# Altium footprint library Resistors.PcbLib: 18 footprints (part 1 of 2)
Each footprint in its own frame and in the unit in brackets; x right, y up, seen from the top. Pads: shape width x height; smd on the part's side, far side on the other; paste and mask are expansions set on the pad; w line width, h text height; cw(c..) or ccw(c..) is an arc to the next point about the centre after c.
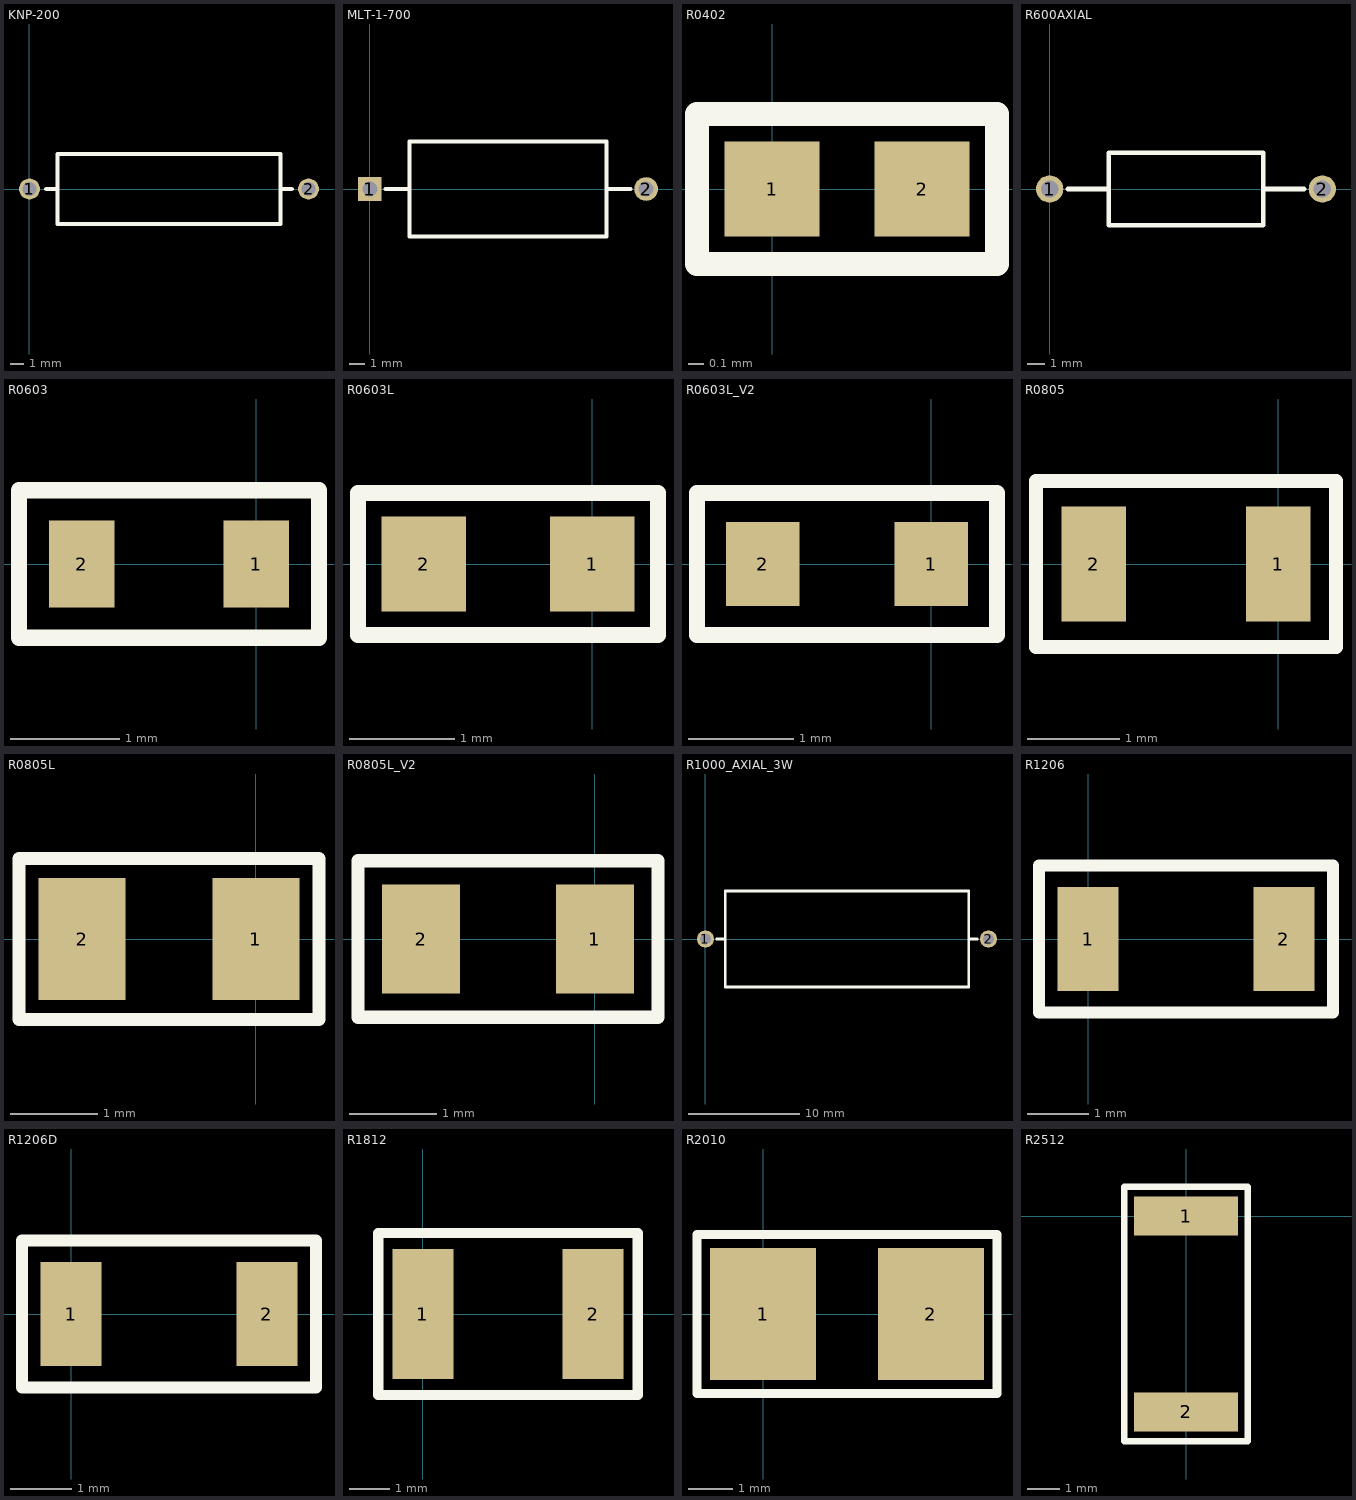
[diagram p0: the footprints below, top view; thin cyan lines are the x and y axes]

## KNP-200 [mm]
pads (2):
  round 1.5 hole 1: 1(0,0) 2(20,0)
Top Overlay:
  lines w0.3: 1.2,0 2,0 ; 18,0 18.8,0 ; 2,-2.5 2,2.5 18,2.5 18,-2.5 2,-2.5
Top Assembly:
  text ".Designator" at 6.001,-0.267 h0.8
3D body "User Library-knp200_hor20mm_470R_5.STEP": height 5.54, standoff -7.05, extent -0.381,-2.543 20.419,2.674

## MLT-1-700 [mil]
pads (2):
  rect 60x60 hole 38: 1(0,0)
  round 60 hole 38: 2(700,0)
Top Overlay:
  lines w10: 40,0 100,0 ; 600,0 660,0 ; 100,-120 100,120 600,120 600,-120 100,-120
Top Assembly:
  text ".Designator" at 546.79,-13.12 h39.37
3D body "User Library-Resistor MLTMLT-1.STEP": height 267.72, standoff -110.24, extent -16.14,-129.92 716.14,129.92

## R0402 [mm]
pads (2):
  rect 0.6x0.6 smd: 1(0,0) 2(0.95,0)
Top Overlay:
  lines w0.15: -0.475,-0.475 -0.475,0.475 1.425,0.475 1.425,-0.475 -0.475,-0.475
Top Assembly:
  text ".Designator" at 5.473,-0.333 h1
3D body "R0402.STEP": height 0.34, standoff -0.01, extent -0.025,-0.25 0.975,0.25

## R600AXIAL [mil]
pads (2):
  round 60 hole 38: 1(0,0) 2(600,0)
Top Overlay:
  lines w10: 40,0 130,0 ; 470,0 560,0 ; 130,-80 470,-80 470,80 130,80 130,-80
Top Assembly:
  text ".Designator" at 496.79,-13.12 h39.37

## R0603 [mm]
pads (2):
  rect 0.6x0.8 smd: 1(0,0) 2(-1.6,0)
Top Overlay:
  lines w0.15: -2.175,-0.675 0.575,-0.675 0.575,0.675 -2.175,0.675 -2.175,-0.675
Top Assembly:
  text ".Designator" at -4.799,-0.267 h0.8
3D body "User Library-res0603-1.STEP": height 0.4, standoff 0, extent -1.6,-0.4 0,0.4

## R0603L [mm]
pads (2):
  rect 0.8x0.9 smd: 1(0,0) 2(-1.6,0)
Top Overlay:
  lines w0.15: -2.225,-0.675 0.625,-0.675 0.625,0.675 -2.225,0.675 -2.225,-0.675
Top Assembly:
  text ".Designator" at -4.749,-0.267 h0.8
3D body "User Library-res0603-1.STEP": height 0.4, standoff 0, extent -1.6,-0.4 0,0.4

## R0603L_V2 [mm]
pads (2):
  rect 0.7x0.8 smd: 1(0,0) 2(-1.6,0)
Top Overlay:
  lines w0.15: -2.225,-0.675 -2.225,0.675 0.625,0.675 0.625,-0.675 -2.225,-0.675
Top Assembly:
  text ".Designator" at -4.749,-0.267 h0.8
3D body "User Library-res0603-1.STEP": height 0.4, standoff 0, extent -1.6,-0.4 0,0.4

## R0805 [mm]
pads (2):
  rect 0.7x1.25 smd: 1(0,0) 2(-2,0)
Top Overlay:
  lines w0.15: -2.625,-0.9 0.625,-0.9 0.625,0.9 -2.625,0.9 -2.625,-0.9
Top Assembly:
  text ".Designator" at -5.499,-0.3 h0.9
3D body "User Library-res0805-1.STEP": height 0.5, standoff 0, extent -2,-0.625 0,0.625

## R0805L [mm]
pads (2):
  rect 1x1.4 smd: 1(0,0) 2(-2,0)
Top Overlay:
  lines w0.15: -2.725,-0.925 -2.725,0.925 0.725,0.925 0.725,-0.925 -2.725,-0.925
Top Assembly:
  text ".Designator" at -5.499,-0.3 h0.9
3D body "User Library-res0805-1.STEP": height 0.5, standoff 0, extent -2,-0.625 0,0.625

## R0805L_V2 [mm]
pads (2):
  rect 0.9x1.25 smd: 1(0,0) 2(-2,0)
Top Overlay:
  lines w0.15: -2.725,-0.9 0.725,-0.9 0.725,0.9 -2.725,0.9 -2.725,-0.9
Top Assembly:
  text ".Designator" at -5.499,-0.3 h0.9
3D body "User Library-res0805-1.STEP": height 0.5, standoff 0, extent -1.975,-0.625 0.025,0.625

## R1000_AXIAL_3W [mil]
pads (2):
  round 60 hole 38: 1(0,0) 2(1000,0)
Top Overlay:
  lines w10: 40,0 70,0 ; 930,0 960,0 ; 70,-170 930,-170 930,170 70,170 70,-170
Top Assembly:
  text ".Designator" at 696.79,-13.12 h39.37

## R1206 [mm]
pads (2):
  rect 1x1.7 smd: 1(0,0) 2(3.2,0)
Top Overlay:
  lines w0.2: -0.8,1.2 4,1.2 4,-1.2 -0.8,-1.2 -0.8,1.2 ; -0.8,1.2 -0.8,1.2
Top Assembly:
  text ".Designator" at -2.399,-0.267 h0.8
3D body "User Library-res1206-1.STEP": height 0.55, standoff 0, extent 0,-0.8 3.2,0.8

## R1206D [mm]
pads (2):
  rect 1x1.7 smd: 1(0,0) 2(3.2,0)
Top Overlay:
  lines w0.2: -0.8,1.2 -0.8,-1.2 4,-1.2 4,1.2 -0.8,1.2 ; -0.8,1.2 -0.8,1.2
Top Assembly:
  text ".Designator" at -2.399,-0.267 h0.8
3D body "User Library-res1206-1.STEP": height 0.55, standoff 0, extent 0,-0.8 3.2,0.8

## R1812 [mm]
pads (2):
  rect 1.5x3.2 smd: 1(0,0) 2(4.2,0)
Top Overlay:
  lines w0.254: -1.1,-2 -1.1,2 5.3,2 5.3,-2 -1.1,-2
Top Assembly:
  text ".Designator" at -2.798,-0.333 h1
3D body "User Library-SMD RESISTOR-11812.STEP": height 0.6, standoff 0, extent -0.15,-1.6 4.35,1.6

## R2010 [mm]
pads (2):
  rect 2.4x3 smd: 1(0,0) 2(3.8,0)
Top Overlay:
  lines w0.2: -1.5,-1.8 5.3,-1.8 5.3,1.8 -1.5,1.8 -1.5,-1.8
Top Assembly:
  text ".Designator" at -3.098,-0.333 h1

## R2512 [mm]
pads (2):
  rect 3.2x1.2 smd: 1(0,0) 2(0,-6)
Top Overlay:
  lines w0.2: -1.9,-6.9 -1.9,0.9 1.9,0.9 1.9,-6.9 -1.9,-6.9
Top Assembly:
  text ".Designator" at 0.333,-8.198 h1
3D body "User Library-res2512_body.STEP": height 0.62, standoff 0, extent -1.6,-6.16 1.6,0.16